# EAGLE library part LIS331HH (library lis331hh)
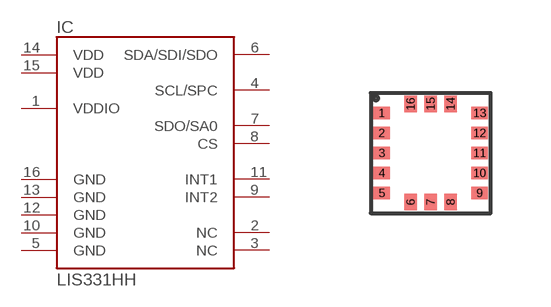
[diagram p0: symbol with the pads of LGA16; footprint LGA16]

Designator prefix IC

## LIS331HH  [LGA16]
1  VDDIO
2  NC
3  NC
4  SCL/SPC
5  GND
6  SDA/SDI/SDO
7  SDO/SA0
8  CS
9  INT2
10  GND
11  INT1
12  GND
13  GND
14  VDD
15  VDD
16  GND

## Footprint LGA16 (pad centres in mm)
smd 0.41 x 0.31: 1 -1.225,1; 2 -1.225,0.5; 3 -1.225,0; 4 -1.225,-0.5; 5 -1.225,-1; 9 1.225,-1; 10 1.225,-0.5; 11 1.225,0; 12 1.225,0.5; 13 1.225,1
smd 0.31 x 0.41: 6 -0.5,-1.225; 7 0,-1.225; 8 0.5,-1.225; 14 0.5,1.225; 15 0,1.225; 16 -0.5,1.225